# Altium footprint library Connector-IDC.PcbLib: 16 footprints
Each footprint in its own frame and in the unit in brackets; x right, y up, seen from the top. Pads: shape width x height; smd on the part's side, far side on the other; paste and mask are expansions set on the pad; w line width, h text height; cw(c..) or ccw(c..) is an arc to the next point about the centre after c.
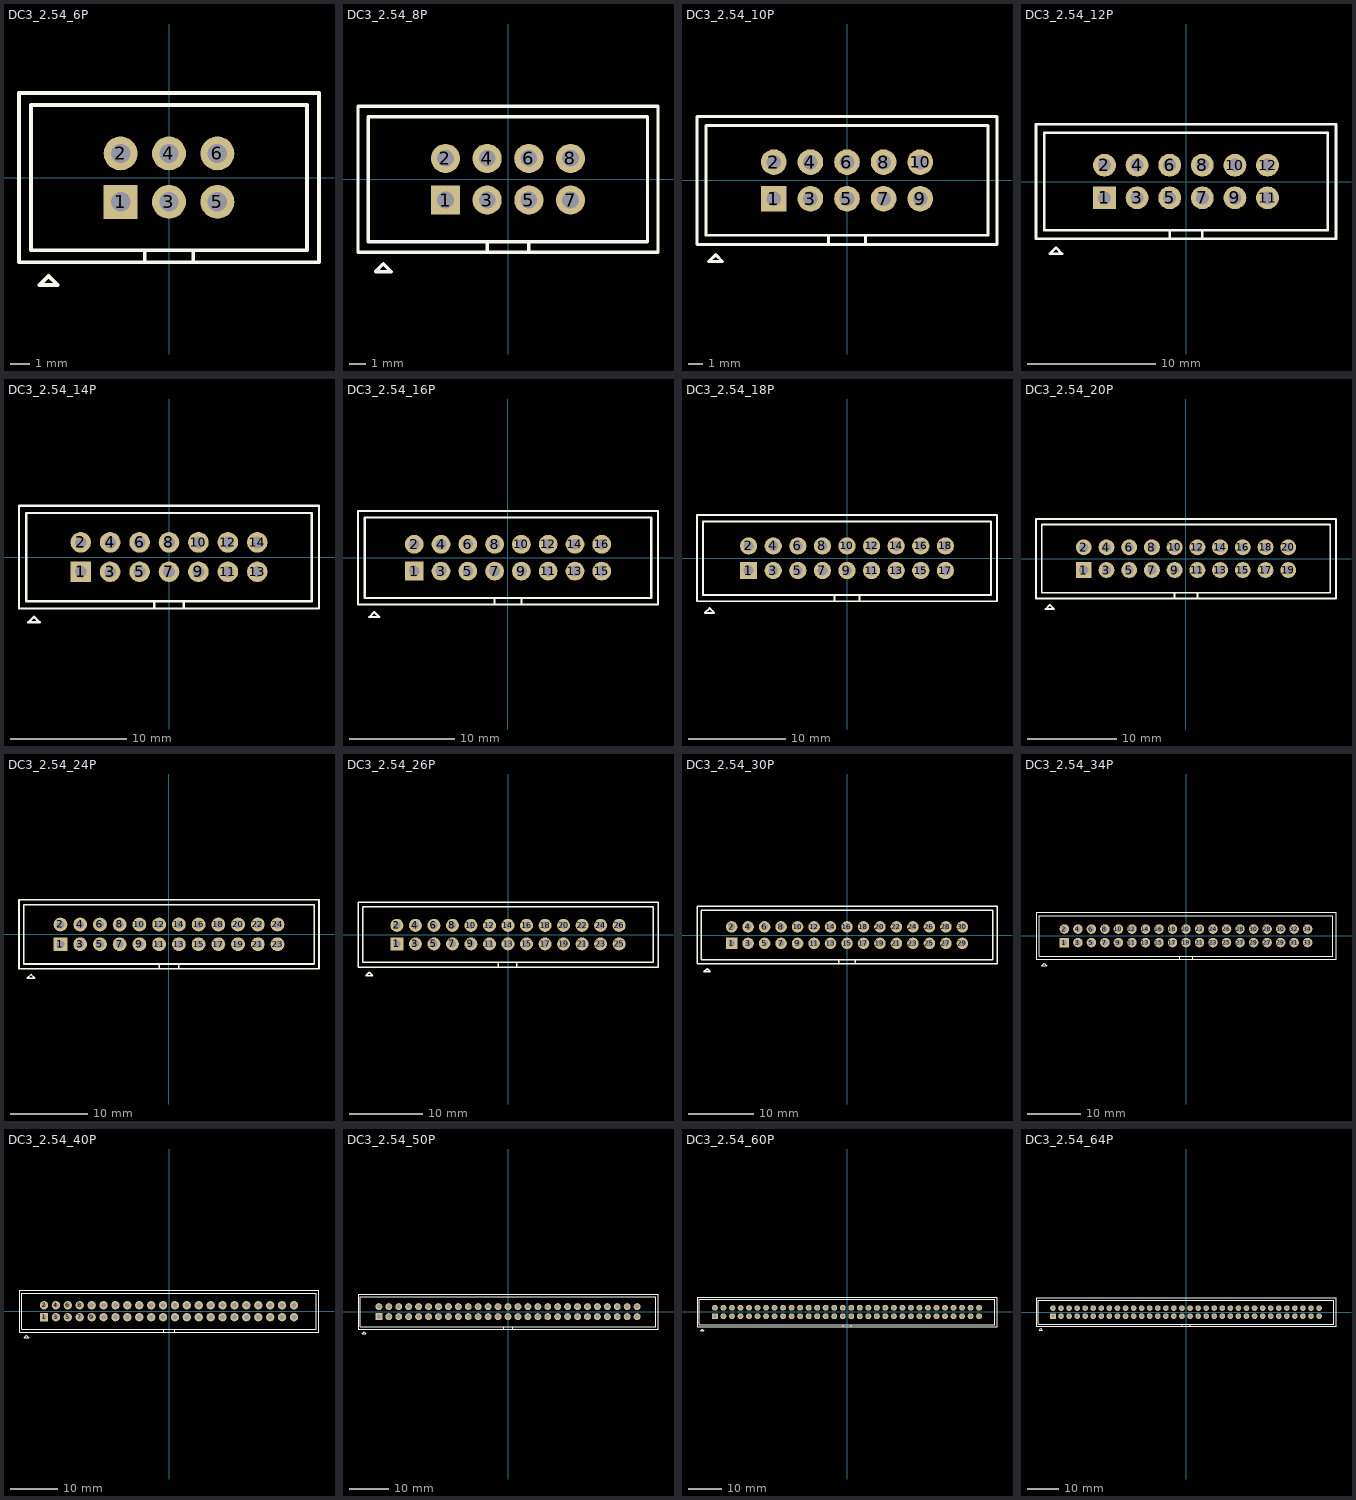
[diagram p0: the footprints below, top view; thin cyan lines are the x and y axes]

## DC3_2.54_6P [mil]
pads (6):
  rect 70x70 hole 40: 1(-100,-50)
  round 70 hole 40: 2(-100,50) 3(0,-50) 4(0,50) 5(100,-50) 6(100,50)
Top Overlay:
  lines w8: -50,-175 -50,-150 285,-150 285,150 -285,150 -285,-150 50,-150 50,-175 ; -310,-175 -310,175 310,175 310,-175 -310,-175 ; -268,-222 -249,-203 -230,-222 -268,-222

## DC3_2.54_8P [mil]
pads (8):
  rect 70x70 hole 40: 1(-150,-50)
  round 70 hole 40: 2(-150,50) 3(-50,-50) 4(-50,50) 5(50,-50) 6(50,50) 7(150,-50) 8(150,50)
Top Overlay:
  lines w8: -100,-150 335,-150 335,150 -335,150 -335,-150 0,-150 ; -50,-175 -50,-150 ; 50,-175 50,-150 ; -360,-175 -360,175 360,175 360,-175 -360,-175 ; -318,-222 -299,-203 -280,-222 -318,-222

## DC3_2.54_10P [mil]
pads (10):
  rect 70x70 hole 40: 1(-200,-50)
  round 70 hole 40: 2(-200,50) 3(-100,-50) 4(-100,50) 5(0,-50) 6(0,50) 7(100,-50) 8(100,50) 9(200,-50) 10(200,50)
Top Overlay:
  lines w8: -50,-175 -50,-150 385,-150 385,150 -385,150 -385,-150 50,-150 50,-175 ; -410,-175 -410,175 410,175 410,-175 -410,-175 ; -378,-222 -359,-203 -340,-222 -378,-222
3D body "User Library-BoxHeader_2R5W_254P_00D.step": height 358.27, standoff -122.05, extent -405.52,-173.24 405.5,173.22

## DC3_2.54_12P [mil]
pads (12):
  rect 70x70 hole 40: 1(-250,-50)
  round 70 hole 40: 2(-250,50) 3(-150,-50) 4(-150,50) 5(-50,-50) 6(-50,50) 7(50,-50) 8(50,50) 9(150,-50) 10(150,50) 11(250,-50) 12(250,50)
Top Overlay:
  lines w8: -460,174.88 460,176 ; -460,175 -460,-175 460,-175 460,175 ; -100,-150 435,-150 435,150 -435,150 -435,-150 0,-150 ; -50,-175 -50,-150 ; 50,-175 50,-150 ; -418,-222 -380,-222 -399,-203 -418,-222

## DC3_2.54_14P [mil]
pads (14):
  rect 70x70 hole 40: 1(-300,-50)
  round 70 hole 40: 2(-300,50) 3(-200,-50) 4(-200,50) 5(-100,-50) 6(-100,50) 7(0,-50) 8(0,50) 9(100,-50) 10(100,50) 11(200,-50) 12(200,50) 13(300,-50) 14(300,50)
Top Overlay:
  lines w8: -50,-175 -50,-150 485,-150 485,150 -485,150 -485,-150 50,-150 50,-175 ; -510,-175 -510,175 510,175 510,-175 -510,-175 ; -478,-222 -440,-222 -459,-203 -478,-222

## DC3_2.54_16P [mil]
pads (16):
  rect 70x70 hole 40: 1(-350,-50)
  round 70 hole 40: 2(-350,50) 3(-250,-50) 4(-250,50) 5(-150,-50) 6(-150,50) 7(-50,-50) 8(-50,50) 9(50,-50) 10(50,50) 11(150,-50) 12(150,50) 13(250,-50) 14(250,50) 15(350,-50) 16(350,50)
Top Overlay:
  lines w8: -560,174.87 560,175 560,-175 -560,-175 -560,175 ; -100,-150 535,-150 535,150 -535,150 -535,-150 0,-150 ; -50,-175 -50,-150 ; 50,-175 50,-150 ; -518,-222 -499,-203 -480,-222 -518,-222

## DC3_2.54_18P [mil]
pads (18):
  rect 70x70 hole 40: 1(-400,-50)
  round 70 hole 40: 2(-400,50) 3(-300,-50) 4(-300,50) 5(-200,-50) 6(-200,50) 7(-100,-50) 8(-100,50) 9(0,-50) 10(0,50) 11(100,-50) 12(100,50) 13(200,-50) 14(200,50) 15(300,-50) 16(300,50) 17(400,-50) 18(400,50)
Top Overlay:
  lines w8: -50,-175 -50,-150 585,-150 585,150 -585,150 -585,-150 50,-150 50,-175 ; -610,-175 610,-175 610,175 -610,175 -610,-175 ; -578,-222 -540,-222 -559,-203 -578,-222

## DC3_2.54_20P [mil]
pads (20):
  rect 70x70 hole 40: 1(-450,-50)
  round 70 hole 40: 2(-450,50) 3(-350,-50) 4(-350,50) 5(-250,-50) 6(-250,50) 7(-150,-50) 8(-150,50) 9(-50,-50) 10(-50,50) 11(50,-50) 12(50,50) 13(150,-50) 14(150,50) 15(250,-50) 16(250,50) 17(350,-50) 18(350,50) 19(450,-50) 20(450,50)
Top Overlay:
  lines w8: -660,174.86 660,175 660,-175 -660,-175 -660,175 ; -100,-150 635,-150 635,150 -635,150 -635,-150 0,-150 ; -50,-175 -50,-150 ; 50,-175 50,-150 ; -618,-222 -599,-203 -580,-222 -618,-222

## DC3_2.54_24P [mil]
pads (24):
  rect 70x70 hole 40: 1(-550,-50)
  round 70 hole 40: 2(-550,50) 3(-450,-50) 4(-450,50) 5(-350,-50) 6(-350,50) 7(-250,-50) 8(-250,50) 9(-150,-50) 10(-150,50) 11(-50,-50) 12(-50,50) 13(50,-50) 14(50,50) 15(150,-50) 16(150,50) 17(250,-50) 18(250,50) 19(350,-50) 20(350,50) 21(450,-50) 22(450,50) 23(550,-50) 24(550,50)
Top Overlay:
  lines w8: -100,-150 735,-150 735,150 -735,150 -735,-150 0,-150 ; -50,-175 -50,-150 ; 50,-175 50,-150 ; -760,-175 -760,175 760,175 760,-175 -760,-175 ; -718,-222 -680,-222 -699,-203 -718,-222

## DC3_2.54_26P [mil]
pads (26):
  rect 70x70 hole 40: 1(-600,-50)
  round 70 hole 40: 2(-600,50) 3(-500,-50) 4(-500,50) 5(-400,-50) 6(-400,50) 7(-300,-50) 8(-300,50) 9(-200,-50) 10(-200,50) 11(-100,-50) 12(-100,50) 13(0,-50) 14(0,50) 15(100,-50) 16(100,50) 17(200,-50) 18(200,50) 19(300,-50) 20(300,50) 21(400,-50) 22(400,50) 23(500,-50) 24(500,50) 25(600,-50) 26(600,50)
Top Overlay:
  lines w8: -150,-150 785,-150 785,150 -785,150 -785,-150 -50,-150 ; -52,-175 -52,-150 ; 48,-175 48,-150 ; -810,-175 810,-175 810,175 -810,175 -810,-175 ; -768,-222 -730,-222 -749,-203 -768,-222

## DC3_2.54_30P [mil]
pads (30):
  rect 70x70 hole 40: 1(-700,-50)
  round 70 hole 40: 2(-700,50) 3(-600,-50) 4(-600,50) 5(-500,-50) 6(-500,50) 7(-400,-50) 8(-400,50) 9(-300,-50) 10(-300,50) 11(-200,-50) 12(-200,50) 13(-100,-50) 14(-100,50) 15(0,-50) 16(0,50) 17(100,-50) 18(100,50) 19(200,-50) 20(200,50) 21(300,-50) 22(300,50) 23(400,-50) 24(400,50) 25(500,-50) 26(500,50) 27(600,-50) 28(600,50) 29(700,-50) 30(700,50)
Top Overlay:
  lines w8: -250,-150 885,-150 885,150 -885,150 -885,-150 -150,-150 ; -50,-175 -50,-150 ; 50,-175 50,-150 ; -910,-175 910,-175 910,175 -910,175 -910,-175 ; -868,-222 -830,-222 -849,-203 -868,-222

## DC3_2.54_34P [mil]
pads (38):
  rect 70x70 hole 40: 1(-900,-50)
  round 70 hole 40: 2(-900,50) 3(-800,-50) 4(-800,50) 5(-700,-50) 6(-700,50) 7(-600,-50) 8(-600,50) 9(-500,-50) 10(-500,50) 11(-400,-50) 12(-400,50) 13(-300,-50) 14(-300,50) 15(-200,-50) 16(-200,50) 17(-100,-50) 18(-100,50) 19(0,-50) 20(0,50) 21(100,-50) 22(100,50) 23(200,-50) 24(200,50) 25(300,-50) 26(300,50) 27(400,-50) 27(600,-50) 28(400,50) 28(600,50) 29(500,-50) 29(700,-50) 30(500,50) 30(700,50) 31(800,-50) 32(800,50) 33(900,-50) 34(900,50)
Top Overlay:
  lines w8: -450,-150 1085,-150 1085,150 -1085,150 -1085,-150 -350,-150 ; -50,-175 -50,-150 ; 50,-175 50,-150 ; -1110,-175 -1110,175 1110,175 1110,-175 -1110,-175 ; -1068,-222 -1049,-203 -1030,-222 -1068,-222

## DC3_2.54_40P [mil]
pads (44):
  rect 70x70 hole 40: 1(-1050,-50)
  round 70 hole 40: 2(-1050,50) 3(-950,-50) 4(-950,50) 5(-850,-50) 6(-850,50) 7(-750,-50) 8(-750,50) 9(-650,-50) 10(-650,50) 11(-550,-50) 12(-550,50) 13(-450,-50) 14(-450,50) 15(-350,-50) 16(-350,50) 17(-250,-50) 18(-250,50) 19(-150,-50) 20(-150,50) 21(-50,-50) 22(-50,50) 23(50,-50) 24(50,50) 25(150,-50) 26(150,50) 27(250,-50) 27(450,-50) 28(250,50) 28(450,50) 29(350,-50) 29(550,-50) 30(350,50) 30(550,50) 31(650,-50) 32(650,50) 33(750,-50) 34(750,50) 35(850,-50) 36(850,50) 37(950,-50) 38(950,50) 39(1050,-50) 40(1050,50)
Top Overlay:
  lines w8: -600,-150 1235,-150 1235,150 -1235,150 -1235,-150 -500,-150 ; -50,-175 -50,-150 ; 50,-175 50,-150 ; -1260,-175 1260,-175 1260,175 -1260,175 -1260,-175 ; -1218,-222 -1180,-222 -1199,-203 -1218,-222

## DC3_2.54_50P [mil]
pads (54):
  rect 70x70 hole 40: 1(-1300,-50)
  round 70 hole 40: 2(-1300,50) 3(-1200,-50) 4(-1200,50) 5(-1100,-50) 6(-1100,50) 7(-1000,-50) 8(-1000,50) 9(-900,-50) 10(-900,50) 11(-800,-50) 12(-800,50) 13(-700,-50) 14(-700,50) 15(-600,-50) 16(-600,50) 17(-500,-50) 18(-500,50) 19(-400,-50) 20(-400,50) 21(-300,-50) 22(-300,50) 23(-200,-50) 24(-200,50) 25(-100,-50) 26(-100,50) 27(0,-50) 27(200,-50) 28(0,50) 28(200,50) 29(100,-50) 29(300,-50) 30(100,50) 30(300,50) 31(400,-50) 32(400,50) 33(500,-50) 34(500,50) 35(600,-50) 36(600,50) 37(700,-50) 38(700,50) 39(800,-50) 40(800,50) 41(900,-50) 42(900,50) 43(1000,-50) 44(1000,50) 45(1100,-50) 46(1100,50) 47(1200,-50) 48(1200,50) 49(1300,-50) 50(1300,50)
Top Overlay:
  lines w8: -850,-150 1485,-150 1485,150 -1485,150 -1485,-150 -750,-150 ; -50,-175 -50,-150 ; 50,-175 50,-150 ; -1510,-175 -1510,175 1510,175 1510,-175 -1510,-175 ; -1468,-222 -1449,-203 -1430,-222 -1468,-222

## DC3_2.54_60P [mil]
pads (64):
  rect 70x70 hole 40: 1(-1550,-50)
  round 70 hole 40: 2(-1550,50) 3(-1450,-50) 4(-1450,50) 5(-1350,-50) 6(-1350,50) 7(-1250,-50) 8(-1250,50) 9(-1150,-50) 10(-1150,50) 11(-1050,-50) 12(-1050,50) 13(-950,-50) 14(-950,50) 15(-850,-50) 16(-850,50) 17(-750,-50) 18(-750,50) 19(-650,-50) 20(-650,50) 21(-550,-50) 22(-550,50) 23(-450,-50) 24(-450,50) 25(-350,-50) 26(-350,50) 27(-250,-50) 27(-50,-50) 28(-250,50) 28(-50,50) 29(-150,-50) 29(50,-50) 30(-150,50) 30(50,50) 31(150,-50) 32(150,50) 33(250,-50) 34(250,50) 35(350,-50) 36(350,50) 37(450,-50) 38(450,50) 39(550,-50) 40(550,50) 41(650,-50) 42(650,50) 43(750,-50) 44(750,50) 45(850,-50) 46(850,50) 47(950,-50) 48(950,50) 49(1050,-50) 50(1050,50) 51(1150,-50) 52(1150,50) 53(1250,-50) 54(1250,50) 55(1350,-50) 56(1350,50) 57(1450,-50) 58(1450,50) 59(1550,-50) 60(1550,50)
Top Overlay:
  lines w8: -1100,-150 1735,-150 1735,150 -1735,150 -1735,-150 -1000,-150 ; -50,-175 -50,-150 ; 50,-175 50,-150 ; -1760,-175 -1760,175 1760,174.99 1760,-175 -1760,-175 ; -1718,-222 -1699,-203 -1680,-222 -1718,-222

## DC3_2.54_64P [mil]
pads (68):
  rect 70x70 hole 40: 1(-1650,-50)
  round 70 hole 40: 2(-1650,50) 3(-1550,-50) 4(-1550,50) 5(-1450,-50) 6(-1450,50) 7(-1350,-50) 8(-1350,50) 9(-1250,-50) 10(-1250,50) 11(-1150,-50) 12(-1150,50) 13(-1050,-50) 14(-1050,50) 15(-950,-50) 16(-950,50) 17(-850,-50) 18(-850,50) 19(-750,-50) 20(-750,50) 21(-650,-50) 22(-650,50) 23(-550,-50) 24(-550,50) 25(-450,-50) 26(-450,50) 27(-350,-50) 27(-150,-50) 28(-350,50) 28(-150,50) 29(-250,-50) 29(-50,-50) 30(-250,50) 30(-50,50) 31(50,-50) 32(50,50) 33(150,-50) 34(150,50) 35(250,-50) 36(250,50) 37(350,-50) 38(350,50) 39(450,-50) 40(450,50) 41(550,-50) 42(550,50) 43(650,-50) 44(650,50) 45(750,-50) 46(750,50) 47(850,-50) 48(850,50) 49(950,-50) 50(950,50) 51(1050,-50) 52(1050,50) 53(1150,-50) 54(1150,50) 55(1250,-50) 56(1250,50) 57(1350,-50) 58(1350,50) 59(1450,-50) 60(1450,50) 61(1550,-50) 62(1550,50) 63(1650,-50) 64(1650,50)
Top Overlay:
  lines w8: -1200,-150 1835,-150 1835,150 -1835,150 -1835,-150 -1100,-150 ; -50,-175 -50,-150 ; 50,-175 50,-150 ; -1860,-175 -1860,175 1860,174.99 1860,-175 -1860,-175 ; -1818,-222 -1799,-203 -1780,-222 -1818,-222